# Altium footprint library adafruit.PCBLIB: 643 footprints (part 16 of 41)
Each footprint in its own frame and in the unit in brackets; x right, y up, seen from the top. Pads: shape width x height; smd on the part's side, far side on the other; paste and mask are expansions set on the pad; w line width, h text height; cw(c..) or ccw(c..) is an arc to the next point about the centre after c.
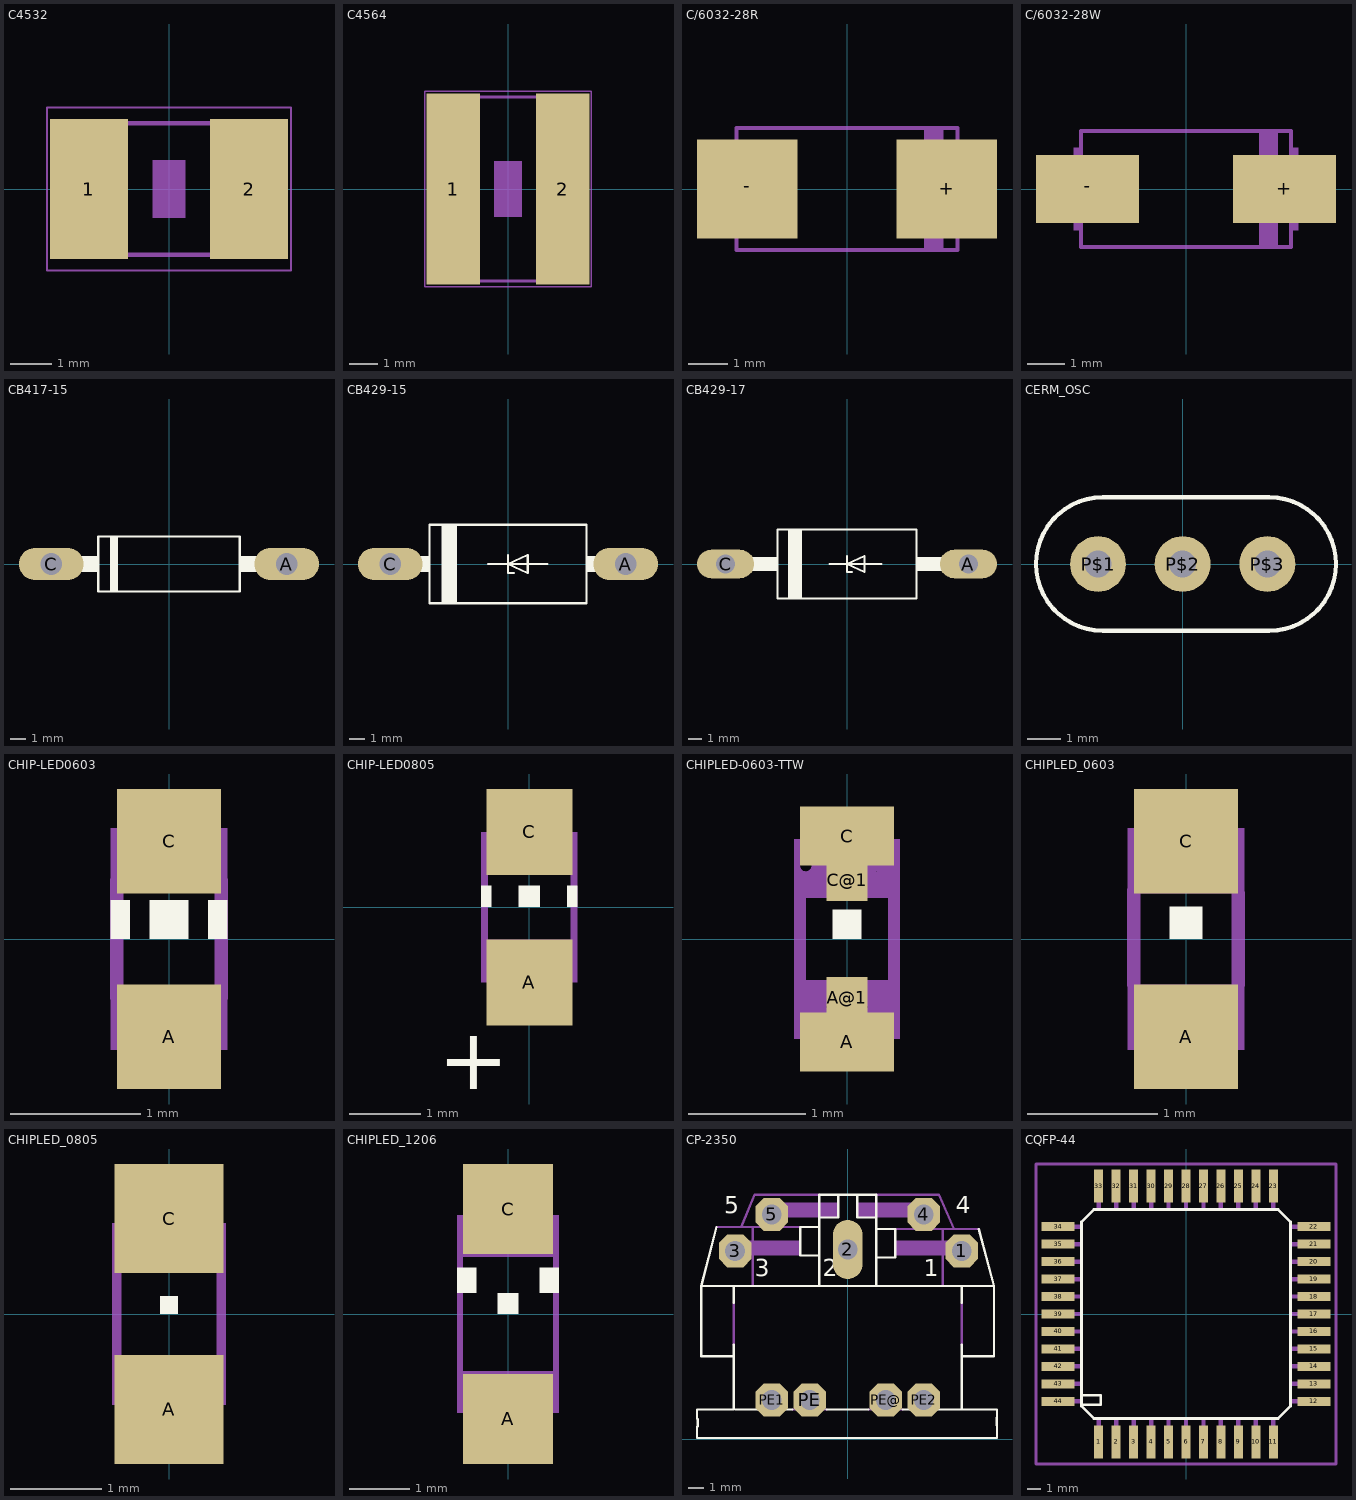
[diagram p15: the footprints below, top view; thin cyan lines are the x and y axes]

## C4532 [mil]
pads (2):
  rect 74.8x133.86 smd: 1(-76.77,0) 2(76.77,0)
Mechanical 6:
  rectangle: -15.75,-27.56 15.75,27.56
Mechanical 16:
  rectangle: -94,-65 -56.6,64.92
  rectangle: 57,-65 94.4,64.92
  lines w4: -58,63 58,63 ; -57,-63 58,-63
Mechanical 27:
  lines w2: -117.05,-78.07 117.05,-78.07 117.05,78.07 -117.05,78.07 -117.05,-78.07

## C4564 [mil]
pads (2):
  rect 74.8x267.72 smd: 1(-76.77,0) 2(76.77,0)
Mechanical 6:
  rectangle: -19.69,-39.37 19.69,39.37
Mechanical 16:
  rectangle: -95,-132 -57.6,131.78
  rectangle: 57,-132 94.4,131.78
  lines w4: -59,129 58,129 ; -58,-129 59,-129
Mechanical 27:
  lines w2: -117.05,-137.13 117.05,-137.13 117.05,137.13 -117.05,137.13 -117.05,-137.13

## C/6032-28R [mm]
pads (2):
  rect 2.55x2.5 smd: +(2.525,0) -(-2.525,0)
Mechanical 16:
  rectangle: -3,-1.1 -2.85,1.1
  rectangle: 2.85,-1.1 3,1.1
  rectangle: 1.95,-1.575 2.45,1.575
  lines w0.102: -2.8,-1.55 2.8,-1.55 2.8,1.55 -2.8,1.55 -2.8,-1.55

## C/6032-28W [mil]
pads (2):
  rect 108.27x70.87 smd: +(103.35,0) -(-103.35,0)
Mechanical 16:
  rectangle: -118.11,-43.31 -112.2,43.31
  rectangle: 112.2,-43.31 118.11,43.31
  rectangle: 76.77,-62.01 96.46,62.01
  lines w4: -110.24,-61.02 110.24,-61.02 110.24,61.02 -110.24,61.02 -110.24,-61.02

## CB417-15 [mil]
pads (2):
  oval 165x82.5 hole 55: A(300,0) C(-300,0)
Top Overlay:
  rectangle: -150,-70 -130,70
  rectangle: 180,-21 245,21
  rectangle: -245,-21 -180,21
  lines w6: -180,-70 -180,70 180,70 180,-70 -180,-70
Mechanical 16:
  lines w44: -300,0 -250,0 ; 250,0 300,0

## CB429-15 [mil]
pads (2):
  oval 165x82.5 hole 55: A(300,0) C(-300,0)
Top Overlay:
  rectangle: -170,-100 -130,100
  rectangle: -235,-20 -200,20
  rectangle: 200,-20 235,20
  lines w6: -50,0 0,0 ; 0,23 0,0 ; 15,-23 0,-23 0,0 ; 100,0 0,0 ; 0,0 50,23 50,-23 0,0 ; -200,-100 -200,100 200,100 200,-100 -200,-100
Mechanical 16:
  lines w40: -300,0 -240,0 ; 240,0 300,0

## CB429-17 [mil]
pads (2):
  oval 165x82.5 hole 55: A(350,0) C(-350,0)
Top Overlay:
  rectangle: -170,-100 -130,100
  rectangle: 200,-20 285,20
  rectangle: -285,-20 -200,20
  lines w6: -50,0 0,0 ; 0,23 0,0 ; 15,-23 0,-23 0,0 ; 100,0 0,0 ; 0,0 50,23 50,-23 0,0 ; -200,-100 -200,100 200,100 200,-100 -200,-100
Mechanical 16:
  lines w40: -350,0 -290,0 ; 290,0 350,0

## CERM_OSC [mil]
pads (3):
  round 66 hole 32: P$1(-100,0) P$2(0,0) P$3(100,0)
Top Overlay:
  lines w5: -94.49,-78.74 cw(c-94.49,0) -94.49,78.74 102.36,78.74 cw(c102.36,0) 102.36,-78.74 -94.49,-78.74

## CHIP-LED0603 [mil]
pads (2):
  rect 31.5x31.5 smd: A(0,-29.53) C(0,29.53)
Top Overlay:
  rectangle: -17.72,0 -11.81,11.81
  rectangle: 11.81,0 17.72,11.81
  rectangle: -5.91,0 5.91,11.81
Mechanical 16:
  rectangle: -17.72,17.72 17.72,33.46
  rectangle: -17.72,-33.46 17.72,-17.72
  lines w4: -15.75,-17.72 -15.75,17.72 ; 15.75,-17.72 15.75,17.72

## CHIP-LED0805 [mil]
pads (2):
  rect 47.24x47.24 smd: A(0,-41.34) C(0,41.34)
Top Overlay:
  rectangle: -26.57,0 -20.67,11.81
  rectangle: 20.67,0 26.57,11.81
  rectangle: -5.91,0 5.91,11.81
  text "+" at -50,-100 h34
Mechanical 16:
  rectangle: -26.57,17.72 26.57,41.34
  rectangle: -26.57,-41.34 26.57,-17.72
  lines w4: -24.61,-17.72 -24.61,17.72 ; 24.61,-18.7 24.61,17.72

## CHIPLED-0603-TTW [mm]
pads (4):
  rect 0.8x0.5 smd: A(0,-0.875) C(0,0.875)
  rect 0.35x0.35 smd: A@1(0,-0.5) C@1(0,0.5)
Top Overlay:
  rectangle: -0.125,0 0.125,0.25
Top Solder:
  rectangle: -0.175,0.325 0.175,0.7
  rectangle: -0.4,0.625 0.4,1.125
  rectangle: -0.4,-1.125 0.4,-0.625
  rectangle: -0.175,-0.675 0.175,-0.325
Mechanical 16:
  circle w0.051: c-0.35,0.625 r0.075
  rectangle: -0.45,0.7 -0.25,0.85
  rectangle: -0.275,0.55 -0.225,0.6
  rectangle: -0.45,0.35 -0.4,0.725
  rectangle: 0.25,0.55 0.45,0.85
  rectangle: -0.45,0.35 0.45,0.575
  rectangle: -0.45,-0.85 -0.25,-0.35
  rectangle: 0.25,-0.85 0.45,-0.35
  rectangle: -0.275,-0.575 0.275,-0.35
  rectangle: -0.275,-0.65 -0.175,-0.55
  rectangle: 0.175,-0.65 0.275,-0.55
  lines w0.051: -0.275,-0.825 cw(c0,-0.825) 0.275,-0.825
  lines w0.102: -0.4,-0.35 -0.4,0.375 ; -0.3,0.825 ccw(c0,0.825) 0.3,0.825 ; 0.4,-0.35 0.4,0.35

## CHIPLED_0603 [mil]
pads (2):
  rect 31.5x31.5 smd: A(0,-29.53) C(0,29.53)
Top Overlay:
  rectangle: -4.92,0 4.92,9.84
Mechanical 16:
  circle w2: c-13.78,24.61 r2.95
  rectangle: -17.72,27.56 -9.84,33.46
  rectangle: -10.83,21.65 -8.86,23.62
  rectangle: -17.72,13.78 -15.75,28.54
  rectangle: 9.84,21.65 17.72,33.46
  rectangle: -17.72,13.78 17.72,22.64
  rectangle: -17.72,-33.46 -9.84,-13.78
  rectangle: 9.84,-33.46 17.72,-13.78
  rectangle: -10.83,-22.64 10.83,-13.78
  rectangle: -10.83,-25.59 -6.89,-21.65
  rectangle: 6.89,-25.59 10.83,-21.65
  lines w2: -10.83,-32.48 cw(c0,-32.48) 10.83,-32.48
  lines w4: -15.75,-13.78 -15.75,14.76 ; -11.81,32.48 ccw(c0,32.48) 11.81,32.48 ; 15.75,-13.78 15.75,13.78

## CHIPLED_0805 [mil]
pads (2):
  rect 47.24x47.24 smd: A(0,-41.34) C(0,41.34)
Top Overlay:
  rectangle: -3.94,0 3.94,7.87
Mechanical 16:
  circle w4: c-17.72,33.46 r4.06
  rectangle: 11.81,19.69 24.61,39.37
  rectangle: -12.8,19.69 -6.89,29.53
  rectangle: 6.89,19.69 12.8,29.53
  rectangle: -7.87,19.69 7.87,26.57
  rectangle: 11.81,-39.37 24.61,-19.69
  rectangle: -24.61,-39.37 -11.81,-19.69
  rectangle: 6.89,-29.53 12.8,-19.69
  rectangle: -12.8,-29.53 -6.89,-19.69
  rectangle: -7.87,-26.57 7.87,-19.69
  rectangle: -23.62,19.69 -11.81,31.5
  rectangle: -24.61,36.42 -15.75,39.37
  lines w4: -22.64,-19.69 -22.64,36.42 ; -13.78,-39.37 cw(c0,-39.37) 13.78,-39.37 ; -13.78,39.37 ccw(c0,39.37) 13.78,39.37 ; 22.64,-20.67 22.64,20.67

## CHIPLED_1206 [mil]
pads (2):
  rect 59.06x59.06 smd: A(0,-68.9) C(0,68.9)
Top Overlay:
  rectangle: -33.46,13.78 -20.67,30.51
  rectangle: 20.67,13.78 33.46,30.51
  rectangle: -6.89,0 6.89,13.78
Mechanical 16:
  circle w4: c-21.65,56.1 r3.94
  rectangle: -33.46,60.04 -13.78,64.96
  rectangle: -33.46,48.23 -24.61,61.02
  rectangle: -17.72,48.23 -12.8,57.09
  rectangle: -25.59,48.23 -8.86,53.15
  rectangle: 13.78,51.18 33.46,64.96
  rectangle: 9.84,48.23 33.46,53.15
  rectangle: -33.46,37.4 33.46,49.21
  rectangle: -33.46,-64.96 33.46,-37.4
  lines w4: -31.5,-37.4 -31.5,37.4 ; -15.75,63.98 ccw(c0,63.98) 15.75,63.98 ; 31.5,-37.4 31.5,37.4

## CP-2350 [mil]
pads (9):
  oct 86x86 hole 52: 1(300,495.28) 3(-296.06,495.28) 4(200,591.34) 5(-200,591.34) PE(-100,103.15) PE1(-200,103.15) PE2(200,103.15) PE@(100,103.15)
  oval 78x156 hole 52: 2(0,499.21)
Top Overlay:
  lines w6: -345,558.15 -385,403.15 ; -300,248.15 -300,218.15 ; -300,358.15 -300,403.15 ; -295,78.15 -145,78.15 ; -55,78.15 55,78.15 ; 145,78.15 300,78.15 ; 300,248.15 300,218.15 ; 300,358.15 300,403.15 ; 345,553.15 385,403.15 ; -385,403.15 -385,218.15 -300,218.15 ; -385,403.15 -300,403.15 ; -300,218.15 -300,78.15 -396.38,78.15 -396.38,53.15 -394.69,53.15 -394.69,33.15 -396.38,33.15 -396.38,3.15 392.87,3.15 392.87,33.15 392.44,37.09 392.44,57.09 392.87,53.15 392.87,78.15 300,78.15 ; -300,403.15 -75,403.15 ; -75,403.15 75,403.15 ; -75,403.15 -75,483.15 ; -75,483.15 -75,558.15 ; -75,483.15 -125,483.15 -125,558.15 -75,558.15 ; -75,558.15 -75,583.15 ; -75,583.15 -75,643.15 -25,643.15 ; -75,583.15 -25,583.15 -25,643.15 ; -25,643.15 25,643.15 ; 25,643.15 75,643.15 75,583.15 ; 25,643.15 25,583.15 75,583.15 ; 75,403.15 300,403.15 ; 75,403.15 75,478.15 ; 75,478.15 75,553.15 ; 75,478.15 125,478.15 125,553.15 75,553.15 ; 75,553.15 75,583.15 ; 300,78.15 300,218.15 ; 300,218.15 385,218.15 385,403.15 ; 300,403.15 385,403.15
  text "2" at -65,413.15 h77.5
  text "4" at 285,578.15 h77.5
  text "5" at -325,578.15 h77.5
  text "3" at -245,413.15 h77.5
  text "1" at 200,413.15 h77.5
Mechanical 16:
  rectangle: 125,483.15 315,523.15
  rectangle: 25,583.15 215,623.15
  rectangle: -215,583.15 -25,623.15
  rectangle: -315,483.15 -125,523.15
  lines w6: -345,558.15 -280,558.15 ; -300,248.15 -300,358.15 ; -250,403.15 -250,558.15 ; -145,78.15 -55,78.15 ; -125,558.15 -250,558.15 ; -75,643.15 -245,643.15 -280,558.15 ; 55,78.15 145,78.15 ; 75,643.15 240,643.15 280,553.15 ; 125,553.15 250,553.15 ; 250,403.15 250,553.15 ; 300,248.15 300,358.15 ; 345,553.15 280,553.15 ; -280,558.15 -250,558.15 ; 250,553.15 280,553.15

## CQFP-44 [mm]
pads (44):
  rect 0.65x2.4 smd: 1(-6.35,-9.3) 2(-5.08,-9.3) 3(-3.81,-9.3) 4(-2.54,-9.3) 5(-1.27,-9.3) 6(0,-9.3) 7(1.27,-9.3) 8(2.54,-9.3) 9(3.81,-9.3) 10(5.08,-9.3) 11(6.35,-9.3) 23(6.35,9.3) 24(5.08,9.3) 25(3.81,9.3) 26(2.54,9.3) 27(1.27,9.3) 28(0,9.3) 29(-1.27,9.3) 30(-2.54,9.3) 31(-3.81,9.3) 32(-5.08,9.3) 33(-6.35,9.3)
  rect 2.4x0.65 smd: 12(9.3,-6.35) 13(9.3,-5.08) 14(9.3,-3.81) 15(9.3,-2.54) 16(9.3,-1.27) 17(9.3,0) 18(9.3,1.27) 19(9.3,2.54) 20(9.3,3.81) 21(9.3,5.08) 22(9.3,6.35) 34(-9.3,6.35) 35(-9.3,5.08) 36(-9.3,3.81) 37(-9.3,2.54) 38(-9.3,1.27) 39(-9.3,0) 40(-9.3,-1.27) 41(-9.3,-2.54) 42(-9.3,-3.81) 43(-9.3,-5.08) 44(-9.3,-6.35)
Top Overlay:
  lines w0.203: -7.5,-5.9 -6.2,-5.9 -6.2,-6.6 -7.6,-6.6 ; -7.6,-6.6 -7.6,6.7 -6.7,7.6 6.7,7.6 7.6,6.7 7.6,-6.7 6.7,-7.6 -6.7,-7.6 -7.6,-6.7 -7.6,-6.6
Mechanical 16:
  rectangle: -6.51,-10.1 -6.19,-7.6
  rectangle: -5.24,-10.1 -4.92,-7.6
  rectangle: -3.97,-10.1 -3.65,-7.6
  rectangle: -2.7,-10.1 -2.38,-7.6
  rectangle: -1.43,-10.1 -1.11,-7.6
  rectangle: -0.16,-10.1 0.16,-7.6
  rectangle: 1.11,-10.1 1.43,-7.6
  rectangle: 2.38,-10.1 2.7,-7.6
  rectangle: 3.65,-10.1 3.97,-7.6
  rectangle: 4.92,-10.1 5.24,-7.6
  rectangle: 6.19,-10.1 6.51,-7.6
  rectangle: 7.6,-6.51 10.1,-6.19
  rectangle: 7.6,-5.24 10.1,-4.92
  rectangle: 7.6,-3.97 10.1,-3.65
  rectangle: 7.6,-2.7 10.1,-2.38
  rectangle: 7.6,-1.43 10.1,-1.11
  rectangle: 7.6,-0.16 10.1,0.16
  rectangle: 7.6,1.11 10.1,1.43
  rectangle: 7.6,2.38 10.1,2.7
  rectangle: 7.6,3.65 10.1,3.97
  rectangle: 7.6,4.92 10.1,5.24
  rectangle: 7.6,6.19 10.1,6.51
  rectangle: 6.19,7.6 6.51,10.1
  rectangle: 4.92,7.6 5.24,10.1
  rectangle: 3.65,7.6 3.97,10.1
  rectangle: 2.38,7.6 2.7,10.1
  rectangle: 1.11,7.6 1.43,10.1
  rectangle: -0.16,7.6 0.16,10.1
  rectangle: -1.43,7.6 -1.11,10.1
  rectangle: -2.7,7.6 -2.38,10.1
  rectangle: -3.97,7.6 -3.65,10.1
  rectangle: -5.24,7.6 -4.92,10.1
  rectangle: -6.51,7.6 -6.19,10.1
  rectangle: -10.1,6.19 -7.6,6.51
  rectangle: -10.1,4.92 -7.6,5.24
  rectangle: -10.1,3.65 -7.6,3.97
  rectangle: -10.1,2.38 -7.6,2.7
  rectangle: -10.1,1.11 -7.6,1.43
  rectangle: -10.1,-0.16 -7.6,0.16
  rectangle: -10.1,-1.43 -7.6,-1.11
  rectangle: -10.1,-2.7 -7.6,-2.38
  rectangle: -10.1,-3.97 -7.6,-3.65
  rectangle: -10.1,-5.24 -7.6,-4.92
  rectangle: -10.1,-6.51 -7.6,-6.19
Mechanical 27:
  lines w0.2: -10.903,-10.903 10.903,-10.903 10.903,10.903 -10.903,10.903 -10.903,-10.903